# EAGLE library part SWITCH-DPDT (library SparkFun-Switches)
Double-Pole, Double-Throw (DPDT) Switch Double-pole, double-throw switches. Variant Overview PTH-GPI-152-3013 Used on SparkFun Geiger Counter <https://www.sparkfun.com/products/11345> SMD-AY0202 Surface Mount DPDT Switch <https://www.sparkfun.com/products/597> (COM-00597) Used on e.g. LilyPad Arduino USB - ATmega32U4 Board <https://www.sparkfun.com/products/12049>
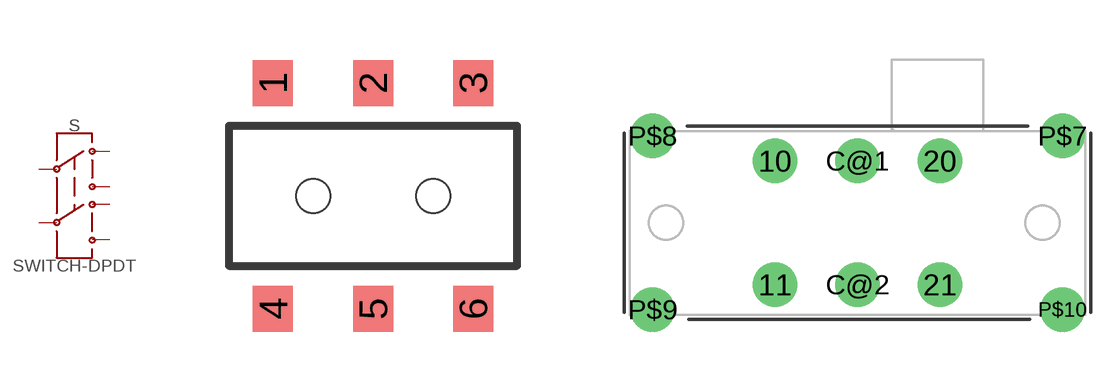
[diagram p9: symbol with the pads of SWITCH_DPDT_SMD_AYZ0202; footprints SWITCH_DPDT_SMD_AYZ0202, SWITCH_DPDT_PTH_GPI-152-3013]

Designator prefix S

## SWITCH-DPDT-SMD-AYZ0202 (PROD_ID: SWCH-08179; SF_SKU: COM-00597)  [SWITCH_DPDT_SMD_AYZ0202]
1  1
2  2
3  3
4  4
5  5
6  6

## SWITCH-DPDT-PTH-GPI-152-3013 (PROD_ID: SWCH-10554)  [SWITCH_DPDT_PTH_GPI-152-3013]
10  1
11  4
20  3
21  6
C@1  2
C@2  5

## SWITCH-DPDT-SMD-JS202011JCQN (PROD_ID: SWCH-14133)  [SWITCH_DPDT_SMD_JS202011JCQN]
1  1
2  2
3  3
4  6
5  5
6  4

## Footprint SWITCH_DPDT_SMD_AYZ0202 (pad centres in mm)
ITT Industries AYZ0202 DPDT Switch - SMD Double-pole, double-throw switches. Datasheet <https://www.sparkfun.com/datasheets/Components/SW_slide_ayz.pdf>
smd 1 x 1.15: 1 -2.5,2.825; 2 0,2.825; 3 2.5,2.825; 4 -2.5,-2.825; 5 0,-2.825; 6 2.5,-2.825
hole 0.85 at 1.5,0
hole 0.85 at -1.5,0

## Footprint SWITCH_DPDT_PTH_GPI-152-3013 (pad centres in mm)
CW Industries GPI-152-3013 DPDT Switch - PTH Double-pole, double-throw switches. Dimensional Drawing <http://switches-connectors-custom.cwind.com/Asset/GPI-152-Dimension-DRAWING.pdf>
drill 1.65: 10 -4.6,3.455; 11 -4.6,-3.455; 20 4.6,3.455; 21 4.6,-3.455; C@1 0,3.455; C@2 0,-3.455; P$7 11.43,4.85; P$8 -11.43,4.85; P$9 -11.43,-4.85; P$10 11.43,-4.85

## Footprint SWITCH_DPDT_SMD_JS202011JCQN (pad centres in mm)
smd 1 x 1.6: 1 -2.5,-1.2; 2 0,-1.2; 3 2.5,-1.2; 4 2.5,1.2; 5 0,1.2; 6 -2.5,1.2